# EAGLE library part MCP16301 (library custom)
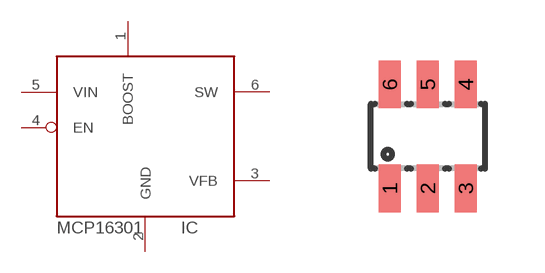
[diagram p1: symbol with the pads of SOT23-6L; footprint SOT23-6L]

Designator prefix IC

## MCP16301  [SOT23-6L]
1  BOOST  pas
2  GND  pwr
3  VFB  in
4  EN  in
5  VIN  pwr
6  SW  pas

## Footprint SOT23-6L (pad centres in mm)
Small Outline Transistor
smd 0.55 x 1.2: 1 -0.95,-1.3; 2 0,-1.3; 3 0.95,-1.3; 4 0.95,1.3; 5 0,1.3; 6 -0.95,1.3